# EAGLE library part PIC18F8*J5?-I/PT (library mchp-pic18)
80 pins USB microcontroller from 32K to 128K Flash and 4k Ram Description PIC18F85J50 (32k Flash, 4k Ram) PIC18F86J50 (64k Flash, 4k Ram) PIC18F86J55 (96k Flash, 4k Ram) PIC18F87J50 (128k Flash, 4k Ram) Universal Serial Bus Features: • USB V2.0 Compliant SIE • Low Speed (1.5 Mb/s) and Full Speed (12 Mb/s) • Supports Control, Interrupt, Isochronous and Bulk Transfers • Supports up to 32 Endpoints (16 bidirectional) • 3.9-Kbyte Dual Access RAM for USB Flexible Oscillator Structure: • High-Precision PLL for USB • Two External Clock modes, up to 48 MHz • Internal 31 kHz Oscillator, Tunable Internal Oscillator, 31 kHz to 8 MHz • Secondary Oscillator using Timer1 @ 32 kHz Peripheral Highlights: • High-Current Sink/Source 25 mA/25mA (PORTB and PORTC) • Four Programmable External Interrupts • Four Input Change Interrupts • Two Capture/Compare/PWM (CCP) modules • Three Enhanced Capture/Compare/PWM (ECCP) modules: - One, two or four PWM outputs - Selectable polarity - Programmable dead time - Auto-shutdown and auto-restart • Two Master Synchronous Serial Port (MSSP) modules supporting 3-Wire SPI (all 4 modes) and I2C™ Master and Slave modes • 8-Bit Parallel Master Port/Enhanced Parallel Slave Port with 16 Address Lines • Dual Analog Comparators with Input Multiplexing 10-Bit, up to 12-Channel Analog-to-Digital (A/D) Converter module: - Auto-acquisition capability - Conversion available during Sleep • Two Enhanced USART modules: - Supports RS-485, RS-232 and LIN 1.2 • 5.5V Tolerant Inputs (digital-only pins) • Power Management Features: - Run: CPU on, peripherals on - Idle: CPU off, peripherals on - Sleep: CPU off, peripherals off • Priority Levels for Interrupts • Self-Programmable under Software Contro • Extended Watchdog Timer (WDT): Programmable period from 4 ms to 131s • Operating Voltage Range of 2.0V to 3.6V Ref: Datasheet <http://ww1.microchip.com/downloads/en/DeviceDoc/39775c.pdf>
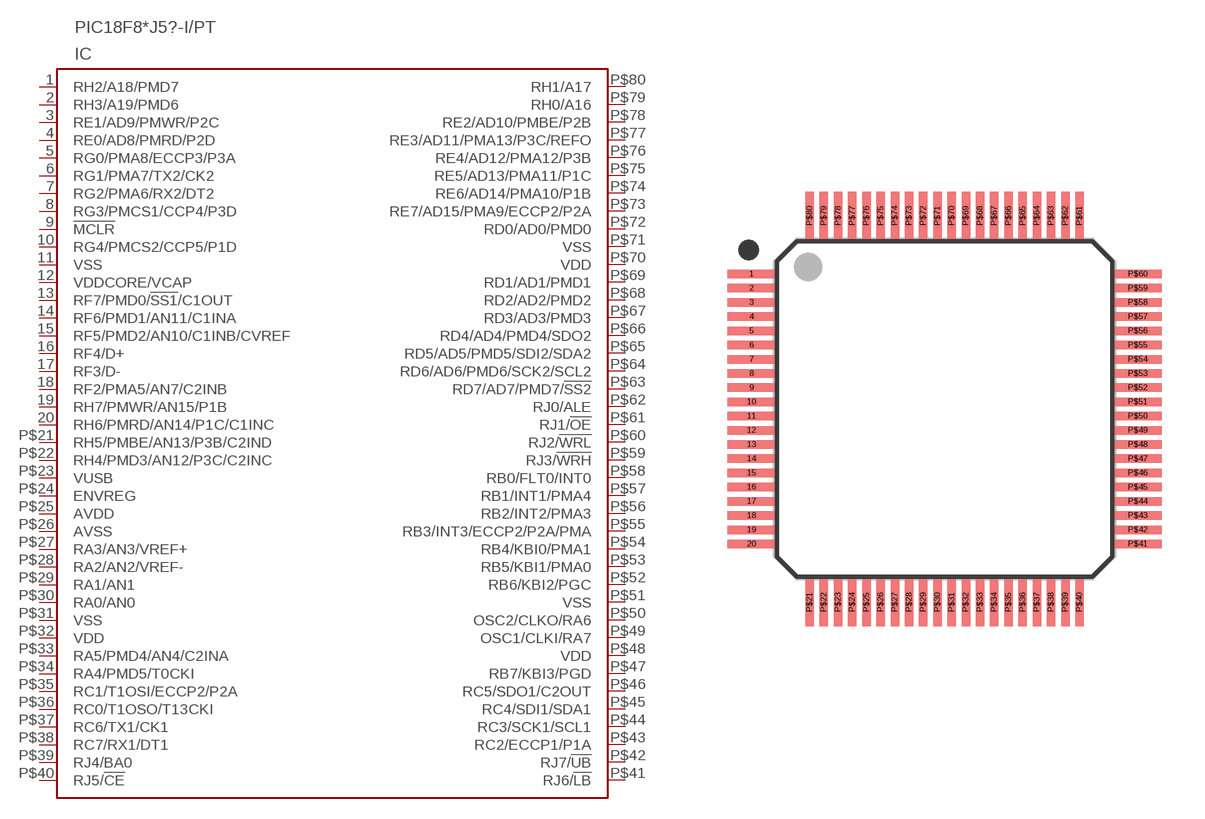
[diagram p5: symbol with the pads of TQFP50P1400X1400X120-80N; footprint TQFP50P1400X1400X120-80N]

Designator prefix IC

## PIC18F85J50-I/PT, PIC18F86J50-I/PT, PIC18F87J50-I/PT  [TQFP50P1400X1400X120-80N]
1  RH2/A18/PMD7
2  RH3/A19/PMD6
3  RE1/AD9/PMWR/P2C
4  RE0/AD8/PMRD/P2D
5  RG0/PMA8/ECCP3/P3A
6  RG1/PMA7/TX2/CK2
7  RG2/PMA6/RX2/DT2
8  RG3/PMCS1/CCP4/P3D
9  !MCLR
10  RG4/PMCS2/CCP5/P1D
11  VSS  pwr
12  VDDCORE/VCAP  pwr
13  RF7/PMD0/!SS1!/C1OUT
14  RF6/PMD1/AN11/C1INA
15  RF5/PMD2/AN10/C1INB/CVREF
16  RF4/D+
17  RF3/D-
18  RF2/PMA5/AN7/C2INB
19  RH7/PMWR/AN15/P1B
20  RH6/PMRD/AN14/P1C/C1INC
P$21  RH5/PMBE/AN13/P3B/C2IND
P$22  RH4/PMD3/AN12/P3C/C2INC
P$23  VUSB  pwr
P$24  ENVREG  pwr
P$25  AVDD  pwr
P$26  AVSS  pwr
P$27  RA3/AN3/VREF+
P$28  RA2/AN2/VREF-
P$29  RA1/AN1
P$30  RA0/AN0
P$31  VSS  pwr
P$32  VDD  pwr
P$33  RA5/PMD4/AN4/C2INA
P$34  RA4/PMD5/T0CKI
P$35  RC1/T1OSI/ECCP2/P2A
P$36  RC0/T1OSO/T13CKI
P$37  RC6/TX1/CK1
P$38  RC7/RX1/DT1
P$39  RJ4/BA0
P$40  RJ5/!CE
P$41  RJ6/!LB
P$42  RJ7/!UB
P$43  RC2/ECCP1/P1A
P$44  RC3/SCK1/SCL1
P$45  RC4/SDI1/SDA1
P$46  RC5/SDO1/C2OUT
P$47  RB7/KBI3/PGD
P$48  VDD  pwr
P$49  OSC1/CLKI/RA7
P$50  OSC2/CLKO/RA6
P$51  VSS  pwr
P$52  RB6/KBI2/PGC
P$53  RB5/KBI1/PMA0
P$54  RB4/KBI0/PMA1
P$55  RB3/INT3/ECCP2/P2A/PMA
P$56  RB2/INT2/PMA3
P$57  RB1/INT1/PMA4
P$58  RB0/FLT0/INT0
P$59  RJ3/!WRH
P$60  RJ2/!WRL
P$61  RJ1/!OE
P$62  RJ0/ALE
P$63  RD7/AD7/PMD7/!SS2
P$64  RD6/AD6/PMD6/SCK2/SCL2
P$65  RD5/AD5/PMD5/SDI2/SDA2
P$66  RD4/AD4/PMD4/SDO2
P$67  RD3/AD3/PMD3
P$68  RD2/AD2/PMD2
P$69  RD1/AD1/PMD1
P$70  VDD  pwr
P$71  VSS  pwr
P$72  RD0/AD0/PMD0
P$73  RE7/AD15/PMA9/ECCP2/P2A
P$74  RE6/AD14/PMA10/P1B
P$75  RE5/AD13/PMA11/P1C
P$76  RE4/AD12/PMA12/P3B
P$77  RE3/AD11/PMA13/P3C/REFO
P$78  RE2/AD10/PMBE/P2B
P$79  RH0/A16
P$80  RH1/A17

## PIC18F86J55-I/PT  [TQFP50P1400X1400X120-80N]
Pads as for TQFP50P1400X1400X120-80N

## Footprint TQFP50P1400X1400X120-80N (pad centres in mm)
0.5Pitch, Quad Flat Pack (QFP80) 0.5mm Pitch 20 x20, 80 Pin count 14.0mm L x 14.0mm W x 1.0mm H ---------------------------------------------
smd 1.7 x 0.3: 1 -6.8,4.75; 2 -6.8,4.25; 3 -6.8,3.75; 4 -6.8,3.25; 5 -6.8,2.75; 6 -6.8,2.25; 7 -6.8,1.75; 8 -6.8,1.25; 9 -6.8,0.75; 10 -6.8,0.25; 11 -6.8,-0.25; 12 -6.8,-0.75; 13 -6.8,-1.25; 14 -6.8,-1.75; 15 -6.8,-2.25; 16 -6.8,-2.75; 17 -6.8,-3.25; 18 -6.8,-3.75; 19 -6.8,-4.25; 20 -6.8,-4.75; P$41 6.8,-4.75; P$42 6.8,-4.25; P$43 6.8,-3.75; P$44 6.8,-3.25; P$45 6.8,-2.75; P$46 6.8,-2.25; P$47 6.8,-1.75; P$48 6.8,-1.25; P$49 6.8,-0.75; P$50 6.8,-0.25; P$51 6.8,0.25; P$52 6.8,0.75; P$53 6.8,1.25; P$54 6.8,1.75; P$55 6.8,2.25; P$56 6.8,2.75; P$57 6.8,3.25; P$58 6.8,3.75; P$59 6.8,4.25; P$60 6.8,4.75
smd 0.3 x 1.7: P$21 -4.75,-6.8; P$22 -4.25,-6.8; P$23 -3.75,-6.8; P$24 -3.25,-6.8; P$25 -2.75,-6.8; P$26 -2.25,-6.8; P$27 -1.75,-6.8; P$28 -1.25,-6.8; P$29 -0.75,-6.8; P$30 -0.25,-6.8; P$31 0.25,-6.8; P$32 0.75,-6.8; P$33 1.25,-6.8; P$34 1.75,-6.8; P$35 2.25,-6.8; P$36 2.75,-6.8; P$37 3.25,-6.8; P$38 3.75,-6.8; P$39 4.25,-6.8; P$40 4.75,-6.8; P$61 4.75,6.8; P$62 4.25,6.8; P$63 3.75,6.8; P$64 3.25,6.8; P$65 2.75,6.8; P$66 2.25,6.8; P$67 1.75,6.8; P$68 1.25,6.8; P$69 0.75,6.8; P$70 0.25,6.8; P$71 -0.25,6.8; P$72 -0.75,6.8; P$73 -1.25,6.8; P$74 -1.75,6.8; P$75 -2.25,6.8; P$76 -2.75,6.8; P$77 -3.25,6.8; P$78 -3.75,6.8; P$79 -4.25,6.8; P$80 -4.75,6.8